# EAGLE library part CA3046 (library !synthdiy)
NPN Transistor Array
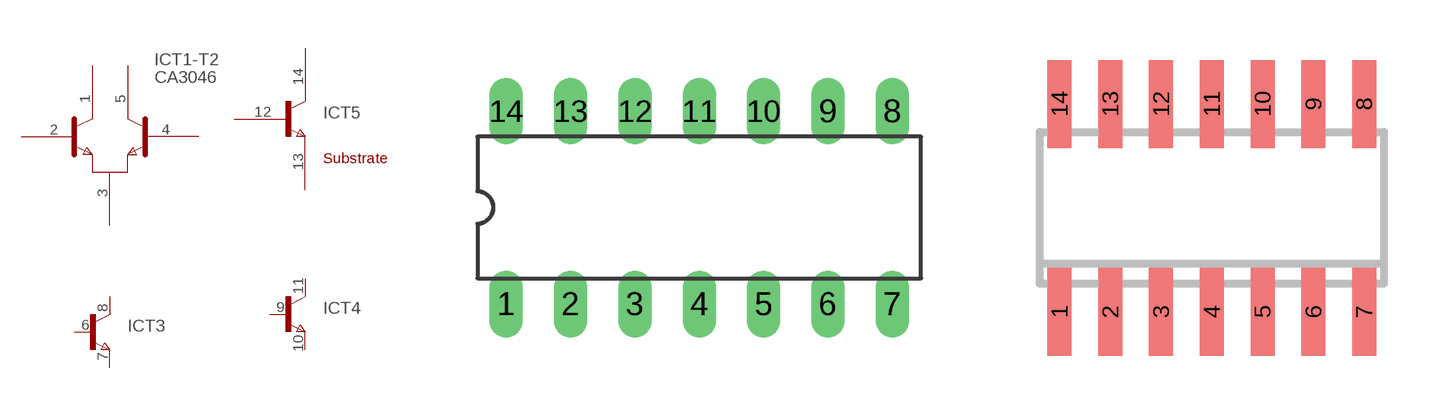
[diagram p8: symbol with the pads of DIL14; footprints DIL14, SO14]

Designator prefix IC; gates T1-T2=NPN-D T3=NPN-NV T4=NPN-NV T5=NPN-SUB

## CA3046  [DIL14]
1  T1-T2:C1  pas
2  T1-T2:B1  pas
3  T1-T2:E  pas
4  T1-T2:B2  pas
5  T1-T2:C2  pas
6  T3:B  pas
7  T3:E  pas
8  T3:C  pas
9  T4:B  pas
10  T4:E  pas
11  T4:C  pas
12  T5:B  pas
13  T5:E  pas
14  T5:C  pas

## CA3046M  [SO14]
Pads as for DIL14

## Footprint DIL14 (pad centres in mm)
Dual In Line 14
drill 0.813 long: 1 -7.62,-3.81; 2 -5.08,-3.81; 3 -2.54,-3.81; 4 0,-3.81; 5 2.54,-3.81; 6 5.08,-3.81; 7 7.62,-3.81; 8 7.62,3.81; 9 5.08,3.81; 10 2.54,3.81; 11 0,3.81; 12 -2.54,3.81; 13 -5.08,3.81; 14 -7.62,3.81

## Footprint SO14 (pad centres in mm)
Small Outline Package 14
smd 0.6 x 2.2: 1 -3.81,-2.6; 2 -2.54,-2.6; 3 -1.27,-2.6; 4 0,-2.6; 5 1.27,-2.6; 6 2.54,-2.6; 7 3.81,-2.6; 8 3.81,2.6; 9 2.54,2.6; 10 1.27,2.6; 11 0,2.6; 12 -1.27,2.6; 13 -2.54,2.6; 14 -3.81,2.6